# Altium footprint library PCB - LEADLESS - QFN - NXP HVQFN-33 7X7MM.PCBLIB: 1 footprints
Each footprint in its own frame and in the unit in brackets; x right, y up, seen from the top. Pads: shape width x height; smd on the part's side, far side on the other; paste and mask are expansions set on the pad; w line width, h text height; cw(c..) or ccw(c..) is an arc to the next point about the centre after c.
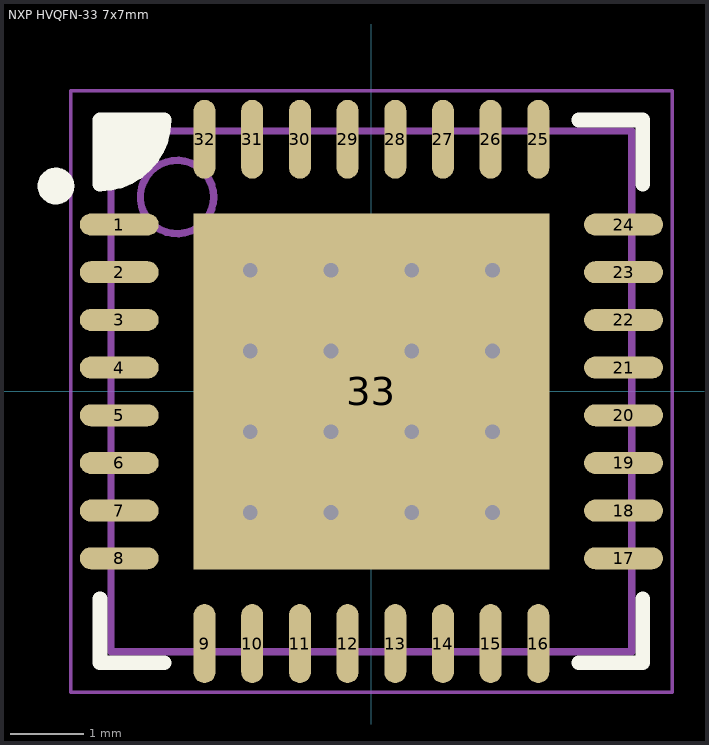
[diagram p0: the footprint, top view; thin cyan lines are the x and y axes]

## NXP HVQFN-33 7x7mm [mm] "HVQFN, 32-Leads, Body 7.00x7.00mm, Pitch 0.65mm, Thermal Pad 4.85x4.85mm, IPC Medium Density"
height 1
pads (33):
  oval 1.075x0.3 smd: 1(-3.437,2.275) 2(-3.437,1.625) 3(-3.437,0.975) 4(-3.437,0.325) 5(-3.437,-0.325) 6(-3.437,-0.975) 7(-3.437,-1.625) 8(-3.437,-2.275) 17(3.438,-2.275) 18(3.438,-1.625) 19(3.438,-0.975) 20(3.438,-0.325) 21(3.438,0.325) 22(3.438,0.975) 23(3.438,1.625) 24(3.438,2.275)
  oval 0.3x1.075 smd: 9(-2.275,-3.438) 10(-1.625,-3.438) 11(-0.975,-3.438) 12(-0.325,-3.438) 13(0.325,-3.438) 14(0.975,-3.438) 15(1.625,-3.438) 16(2.275,-3.438) 25(2.275,3.437) 26(1.625,3.437) 27(0.975,3.437) 28(0.325,3.437) 29(-0.325,3.437) 30(-0.975,3.437) 31(-1.625,3.437) 32(-2.275,3.437)
  rect 4.85x4.85 smd: 33(0,0)
via -1.65,1.65 diameter 0.5 hole 0.2
via -0.55,1.65 diameter 0.5 hole 0.2
via 0.55,1.65 diameter 0.5 hole 0.2
via 1.65,1.65 diameter 0.5 hole 0.2
via -1.65,0.55 diameter 0.5 hole 0.2
via -0.55,0.55 diameter 0.5 hole 0.2
via 0.55,0.55 diameter 0.5 hole 0.2
via 1.65,0.55 diameter 0.5 hole 0.2
via -1.65,-0.55 diameter 0.5 hole 0.2
via -0.55,-0.55 diameter 0.5 hole 0.2
via 0.55,-0.55 diameter 0.5 hole 0.2
via 1.65,-0.55 diameter 0.5 hole 0.2
via -1.65,-1.65 diameter 0.5 hole 0.2
via -0.55,-1.65 diameter 0.5 hole 0.2
via 0.55,-1.65 diameter 0.5 hole 0.2
via 1.65,-1.65 diameter 0.5 hole 0.2
Top Overlay:
  circle w0.25: c-4.3,2.8 r0.125
  region: -3.7,3.7 -2.825,3.7 -2.825,3.614 -2.859,3.445 -2.925,3.286 -3.02,3.142 -3.142,3.02 -3.286,2.925 -3.445,2.859 -3.614,2.825 -3.7,2.825
  lines w0.2: -3.7,-2.825 -3.7,-3.7 -2.825,-3.7 ; 2.825,-3.7 3.7,-3.7 3.7,-2.825 ; 2.825,3.7 3.7,3.7 3.7,2.825 ; -3.7,2.825 ccw(c-3.7,3.7) -2.825,3.7 -3.7,3.7 -3.7,2.825
Mechanical 13:
  circle w0.1: c-2.65,2.65 r0.5
  lines w0.1: -3.55,-3.55 -3.55,3.55 3.55,3.55 3.55,-3.55 -3.55,-3.55
Mechanical 15:
  lines w0.05: -4.1,-4.1 -4.1,4.1 4.1,4.1 4.1,-4.1 -4.1,-4.1
  lines w0.1: -0.5,0 0.5,0 ; 0,-0.5 0,0.5
3D body: height 1, standoff 0.01, extent -3.55,-3.55 3.55,3.55